# EAGLE library part ESPRUINO_PICO_0.05 (library espruino_pico)
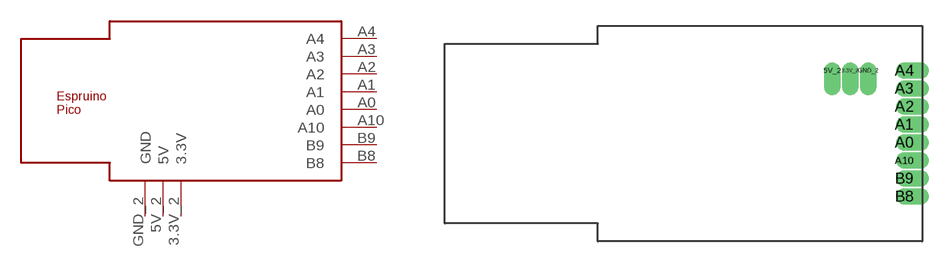
[diagram p2: symbol with the pads of ESPRUINO_PICO_0.05; footprint ESPRUINO_PICO_0.05]

Designator prefix -

## ESPRUINO_PICO_0.05  [ESPRUINO_PICO_0.05]
3.3V_2  3.3V
5V_2  5V
A0  A0
A1  A1
A2  A2
A3  A3
A4  A4
A10  A10
B8  B8
B9  B9
GND_2  GND

## Footprint ESPRUINO_PICO_0.05 (pad centres in mm)
drill 0.65 pad 0.965 offset: 3.3V_2 2.54,4.445; 5V_2 1.27,4.445; A0 6.35,-0.635; A1 6.35,0.635; A2 6.35,1.905; A3 6.35,3.175; A4 6.35,4.445; A10 6.35,-1.905; B8 6.35,-4.445; B9 6.35,-3.175; GND_2 3.81,4.445